# Altium schematic symbol library C0402C123K5RAC7867.SchLib: 1 symbol
Pins are listed as number, name and electrical type; pins without a type are passive.

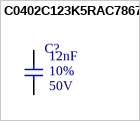
[diagram p0: symbol C0402C123K5RAC7867]

## C0402C123K5RAC7867
designator C?  Rated Voltage: 50V  Tolerance: 10%  Capacitence: 12nF  (hidden comment: C0402C123K5RAC7867)
CAP CER 0.012UF 50V X7R 0402; MFR: KEMET; PN: C0402C123K5RAC7867; ComponentLink1Description: Datasheet; ComponentLink1URL: https://api.kemet.com/component-edge/download/datasheet/C0402C123K5RAC7867.pdf; Temperature Coefficient: X7R; Package: 0402; Footprint: C0402; Supplier 1: Digi-Key; Supplier Part Number 1: 399-9949-1-ND
footprint C0402 (A generic C0402 footprint)
pins: 1, 2